# Altium footprint library Package_TO_SOT_THT.PcbLib: 236 footprints (part 9 of 15)
Each footprint in its own frame and in the unit in brackets; x right, y up, seen from the top. Pads: shape width x height; smd on the part's side, far side on the other; paste and mask are expansions set on the pad; w line width, h text height; cw(c..) or ccw(c..) is an arc to the next point about the centre after c.
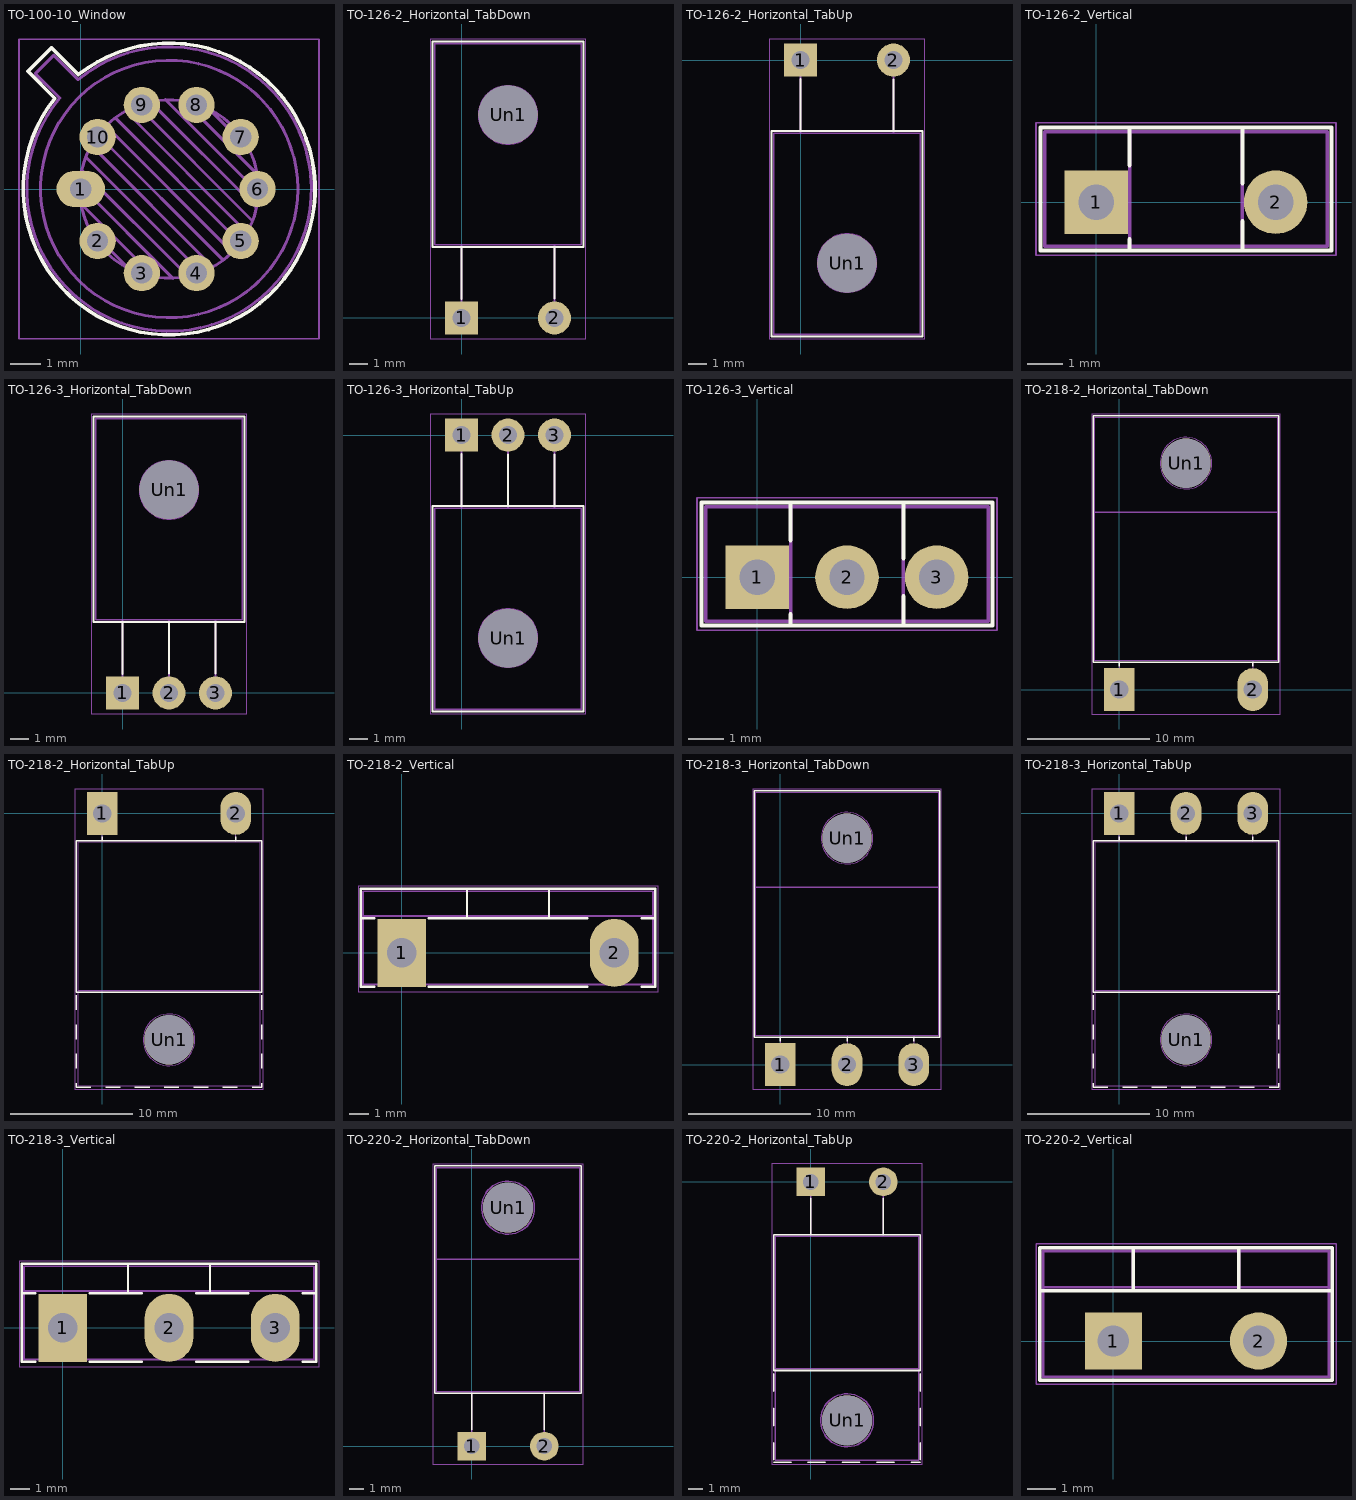
[diagram p8: the footprints below, top view; thin cyan lines are the x and y axes]

## TO-100-10_Window [mm]
pads (10):
  rrect100% 1.6x1.2 hole 0.7: 1(0,0)
  rrect100% 1.2x1.2 hole 0.7: 2(0.558,-1.716) 3(2.018,-2.777) 4(3.822,-2.777) 5(5.282,-1.716) 6(5.84,0) 7(5.282,1.716) 8(3.822,2.777) 9(2.018,2.777) 10(0.558,1.716)
F.SilkS:
  lines w0.12: -1.746,3.888 -0.968,4.666 -0.077,3.775 cw(c2.92,0) -0.855,2.997 -1.746,3.888
F.CrtYd:
  lines w0.05: -2.04,-4.95 7.87,-4.95 7.87,4.95 -2.04,4.95 -2.04,-4.95
F.Fab:
  circle w0.1: c2.92,0 r2.95
  circle w0.1: c2.92,0 r4.25
  lines w0.1: -0.028,0.12 3.04,-2.948 ; 0.009,-0.485 2.435,-2.911 ; 0.036,0.622 3.542,-2.884 ; 0.165,1.058 3.978,-2.755 ; 0.283,-1.324 1.596,-2.637 ; 0.346,1.443 4.363,-2.574 ; 0.57,1.784 4.704,-2.35 ; 0.834,2.086 5.006,-2.086 ; 1.136,2.35 5.27,-1.784 ; 1.477,2.574 5.494,-1.443 ; 1.862,2.755 5.675,-1.058 ; 2.298,2.884 5.804,-0.622 ; 2.8,2.948 5.868,-0.12 ; 3.405,2.911 5.831,0.485 ; 4.244,2.637 5.557,1.324 ; -1.5,3.812 -0.694,3.005 ccw(c2.92,0) -0.085,3.614 -0.892,4.42 -1.5,3.812
  text "'.Designator'" at -1.127,4.98 h1

## TO-126-2_Horizontal_TabDown [mm]
pads (3):
  rect 1.8x1.8 hole 1: 1(0,0)
  rrect100% 1.8x1.8 hole 1: 2(5.08,0)
  rrect100% 3.2x3.2 hole 3.2: Un1(2.54,11.1)
F.SilkS:
  lines w0.12: 0,1.05 0,3.88 ; 5.08,1.066 5.08,3.88 ; -1.58,3.88 -1.58,15.12 6.66,15.12 6.66,3.88 -1.58,3.88
F.CrtYd:
  lines w0.05: -1.71,-1.15 -1.71,15.25 6.79,15.25 6.79,-1.15 -1.71,-1.15
F.Fab:
  circle w0.1: c2.54,11.1 r1.6
  lines w0.1: 0,0 0,4 ; 5.08,0 5.08,4 ; -1.46,4 -1.46,15 6.54,15 6.54,4 -1.46,4
  text "'.Designator'" at -1.507,15.28 h1

## TO-126-2_Horizontal_TabUp [mm]
pads (3):
  rect 1.8x1.8 hole 1: 1(0,0)
  rrect100% 1.8x1.8 hole 1: 2(5.08,0)
  rrect100% 3.2x3.2 hole 3.2: Un1(2.54,-11.1)
F.SilkS:
  lines w0.12: 0,-3.88 0,-1.05 ; 5.08,-3.88 5.08,-1.066 ; -1.58,-15.12 -1.58,-3.88 6.66,-3.88 6.66,-15.12 -1.58,-15.12
F.CrtYd:
  lines w0.05: -1.71,-15.25 6.79,-15.25 6.79,1.15 -1.71,1.15 -1.71,-15.25
F.Fab:
  circle w0.1: c2.54,-11.1 r1.6
  lines w0.1: 0,-4 0,0 ; 5.08,-4 5.08,0 ; -1.46,-15 6.54,-15 6.54,-4 -1.46,-4 -1.46,-15
  text "'.Designator'" at -1.507,-16.96 h1

## TO-126-2_Vertical [mm]
pads (2):
  rect 1.8x1.8 hole 1: 1(0,0)
  rrect100% 1.8x1.8 hole 1: 2(5.08,0)
F.SilkS:
  lines w0.12: 0.94,-1.37 0.94,-1.05 ; 0.94,1.05 0.94,2.12 ; 4.141,-1.37 4.141,-0.54 ; 4.141,0.54 4.141,2.12 ; -1.58,-1.37 6.66,-1.37 6.66,2.12 -1.58,2.12 -1.58,-1.37
F.CrtYd:
  lines w0.05: -1.71,-1.5 6.79,-1.5 6.79,2.25 -1.71,2.25 -1.71,-1.5
F.Fab:
  lines w0.1: 0.94,-1.25 0.94,2 ; 4.14,-1.25 4.14,2 ; -1.46,-1.25 -1.46,2 6.54,2 6.54,-1.25 -1.46,-1.25
  text "'.Designator'" at -1.507,2.28 h1

## TO-126-3_Horizontal_TabDown [mm]
pads (4):
  rect 1.8x1.8 hole 1: 1(0,0)
  rrect100% 1.8x1.8 hole 1: 2(2.54,0) 3(5.08,0)
  rrect100% 3.2x3.2 hole 3.2: Un1(2.54,11.1)
F.SilkS:
  lines w0.12: 0,1.05 0,3.88 ; 2.54,1.066 2.54,3.88 ; 5.08,1.066 5.08,3.88 ; -1.58,3.88 6.66,3.88 6.66,15.12 -1.58,15.12 -1.58,3.88
F.CrtYd:
  lines w0.05: -1.71,-1.15 -1.71,15.25 6.79,15.25 6.79,-1.15 -1.71,-1.15
F.Fab:
  circle w0.1: c2.54,11.1 r1.6
  lines w0.1: 0,0 0,4 ; 2.54,0 2.54,4 ; 5.08,0 5.08,4 ; -1.46,4 6.54,4 6.54,15 -1.46,15 -1.46,4
  text "'.Designator'" at -1.507,15.28 h1

## TO-126-3_Horizontal_TabUp [mm]
pads (4):
  rect 1.8x1.8 hole 1: 1(0,0)
  rrect100% 1.8x1.8 hole 1: 2(2.54,0) 3(5.08,0)
  rrect100% 3.2x3.2 hole 3.2: Un1(2.54,-11.1)
F.SilkS:
  lines w0.12: 0,-3.88 0,-1.05 ; 2.54,-3.88 2.54,-1.066 ; 5.08,-3.88 5.08,-1.066 ; -1.58,-15.12 -1.58,-3.88 6.66,-3.88 6.66,-15.12 -1.58,-15.12
F.CrtYd:
  lines w0.05: -1.71,-15.25 6.79,-15.25 6.79,1.15 -1.71,1.15 -1.71,-15.25
F.Fab:
  circle w0.1: c2.54,-11.1 r1.6
  lines w0.1: 0,-4 0,0 ; 2.54,-4 2.54,0 ; 5.08,-4 5.08,0 ; -1.46,-15 6.54,-15 6.54,-4 -1.46,-4 -1.46,-15
  text "'.Designator'" at -1.507,-16.96 h1

## TO-126-3_Vertical [mm]
pads (3):
  rect 1.8x1.8 hole 1: 1(0,0)
  rrect100% 1.8x1.8 hole 1: 2(2.54,0) 3(5.08,0)
F.SilkS:
  lines w0.12: 0.94,-1.37 0.94,-1.05 ; 0.94,1.05 0.94,2.12 ; 4.141,-1.37 4.141,-0.54 ; 4.141,0.54 4.141,2.12 ; -1.58,-1.37 6.66,-1.37 6.66,2.12 -1.58,2.12 -1.58,-1.37
F.CrtYd:
  lines w0.05: -1.71,-1.5 -1.71,2.25 6.79,2.25 6.79,-1.5 -1.71,-1.5
F.Fab:
  lines w0.1: 0.94,-1.25 0.94,2 ; 4.14,-1.25 4.14,2 ; -1.46,-1.25 -1.46,2 6.54,2 6.54,-1.25 -1.46,-1.25
  text "'.Designator'" at -1.507,2.28 h1

## TO-218-2_Horizontal_TabDown [mm]
pads (3):
  rect 2.5x3.5 hole 1.5: 1(0,0)
  rrect100% 2.5x3.5 hole 1.5: 2(10.95,0)
  rrect100% 4.04x4.04 hole 4.04: Un1(5.475,18.55)
F.SilkS:
  lines w0.12: 0,1.9 0,2.23 ; 10.95,1.9 10.95,2.23 ; -2.115,2.23 13.065,2.23 13.065,22.45 -2.115,22.45 -2.115,2.23
F.CrtYd:
  lines w0.05: -2.25,-2 13.2,-2 13.2,22.58 -2.25,22.58 -2.25,-2
F.Fab:
  circle w0.1: c5.475,18.55 r2.115
  lines w0.1: 0,0 0,2.35 ; 10.95,0 10.95,2.35 ; -1.995,14.54 12.945,14.54 ; -1.995,14.54 -1.995,2.35 12.945,2.35 12.945,14.54 ; -1.995,14.54 12.945,14.54 ; -1.995,14.54 -1.995,22.33 12.945,22.33 12.945,14.54
  text "'.Designator'" at 1.428,22.61 h1

## TO-218-2_Horizontal_TabUp [mm]
pads (3):
  rect 2.5x3.5 hole 1.5: 1(0,0)
  rrect100% 2.5x3.5 hole 1.5: 2(10.95,0)
  rrect100% 4.04x4.04 hole 4.04: Un1(5.475,-18.55)
F.SilkS:
  lines w0.12: -2.115,-22.1 -2.115,-22.45 -0.916,-22.45 ; -2.115,-20.9 -2.115,-19.7 ; -2.115,-18.5 -2.115,-17.3 ; -2.115,-16.101 -2.115,-14.9 ; 0,-2.23 0,-1.9 ; 0.285,-22.45 1.485,-22.45 ; 2.685,-22.45 3.885,-22.45 ; 5.085,-22.45 6.285,-22.45 ; 7.485,-22.45 8.685,-22.45 ; 9.885,-22.45 11.085,-22.45 ; 10.95,-2.23 10.95,-1.9 ; 12.285,-22.45 13.065,-22.45 13.065,-22.1 ; 13.065,-20.9 13.065,-19.7 ; 13.065,-18.5 13.065,-17.3 ; 13.065,-16.101 13.065,-14.9 ; -2.115,-14.66 -2.115,-2.23 13.065,-2.23 13.065,-14.66 -2.115,-14.66
F.CrtYd:
  lines w0.05: -2.25,-22.58 -2.25,2 13.2,2 13.2,-22.58 -2.25,-22.58
F.Fab:
  circle w0.1: c5.475,-18.55 r2.115
  lines w0.1: 0,-2.35 0,0 ; 10.95,-2.35 10.95,0 ; -1.995,-14.54 12.945,-14.54 ; -1.995,-14.54 -1.995,-2.35 12.945,-2.35 12.945,-14.54 ; -1.995,-14.54 -1.995,-22.33 12.945,-22.33 12.945,-14.54 ; -1.995,-14.54 12.945,-14.54
  text "'.Designator'" at 1.428,-24.29 h1

## TO-218-2_Vertical [mm]
pads (2):
  rect 2.5x3.5 hole 1.5: 1(0,0)
  rrect100% 2.5x3.5 hole 1.5: 2(10.95,0)
F.SilkS:
  lines w0.12: -2.115,1.78 -1.4,1.78 ; -1.4,-1.75 -2.115,-1.75 -2.115,3.29 13.065,3.29 13.065,-1.75 12.35,-1.75 ; 1.4,-1.75 9.55,-1.75 ; 1.4,1.78 9.55,1.78 ; 3.36,1.78 3.36,3.29 ; 7.59,1.78 7.59,3.29 ; 12.35,1.78 13.065,1.78
F.CrtYd:
  lines w0.05: -2.25,-2 -2.25,3.42 13.2,3.42 13.2,-2 -2.25,-2
F.Fab:
  lines w0.1: -1.995,1.9 12.945,1.9 ; 3.36,1.9 3.36,3.17 ; 7.59,1.9 7.59,3.17 ; -1.995,-1.63 -1.995,3.17 12.945,3.17 12.945,-1.63 -1.995,-1.63
  text "'.Designator'" at 1.428,3.45 h1

## TO-218-3_Horizontal_TabDown [mm]
pads (4):
  rect 2.5x3.5 hole 1.5: 1(0,0)
  rrect100% 2.5x3.5 hole 1.5: 2(5.475,0) 3(10.95,0)
  rrect100% 4.04x4.04 hole 4.04: Un1(5.475,18.55)
F.SilkS:
  lines w0.12: 0,1.9 0,2.23 ; 5.475,1.9 5.475,2.23 ; 10.95,1.9 10.95,2.23 ; -2.115,2.23 13.065,2.23 13.065,22.45 -2.115,22.45 -2.115,2.23
F.CrtYd:
  lines w0.05: -2.25,-2 13.2,-2 13.2,22.58 -2.25,22.58 -2.25,-2
F.Fab:
  circle w0.1: c5.475,18.55 r2.115
  lines w0.1: 0,0 0,2.35 ; 5.475,0 5.475,2.35 ; 10.95,0 10.95,2.35 ; -1.995,14.54 -1.995,2.35 12.945,2.35 12.945,14.54 ; -1.995,14.54 -1.995,22.33 12.945,22.33 12.945,14.54 ; -1.995,14.54 12.945,14.54 ; -1.995,14.54 12.945,14.54
  text "'.Designator'" at 1.428,22.61 h1

## TO-218-3_Horizontal_TabUp [mm]
pads (4):
  rect 2.5x3.5 hole 1.5: 1(0,0)
  rrect100% 2.5x3.5 hole 1.5: 2(5.475,0) 3(10.95,0)
  rrect100% 4.04x4.04 hole 4.04: Un1(5.475,-18.55)
F.SilkS:
  lines w0.12: -2.115,-22.1 -2.115,-22.45 -0.916,-22.45 ; -2.115,-20.9 -2.115,-19.7 ; -2.115,-18.5 -2.115,-17.3 ; -2.115,-16.101 -2.115,-14.9 ; 0,-2.23 0,-1.9 ; 0.285,-22.45 1.485,-22.45 ; 2.685,-22.45 3.885,-22.45 ; 5.085,-22.45 6.285,-22.45 ; 5.475,-2.23 5.475,-1.9 ; 7.485,-22.45 8.685,-22.45 ; 9.885,-22.45 11.085,-22.45 ; 10.95,-2.23 10.95,-1.9 ; 12.285,-22.45 13.065,-22.45 13.065,-22.1 ; 13.065,-20.9 13.065,-19.7 ; 13.065,-18.5 13.065,-17.3 ; 13.065,-16.101 13.065,-14.9 ; -2.115,-14.66 13.065,-14.66 13.065,-2.23 -2.115,-2.23 -2.115,-14.66
F.CrtYd:
  lines w0.05: -2.25,-22.58 13.2,-22.58 13.2,2 -2.25,2 -2.25,-22.58
F.Fab:
  circle w0.1: c5.475,-18.55 r2.115
  lines w0.1: 0,-2.35 0,0 ; 5.475,-2.35 5.475,0 ; 10.95,-2.35 10.95,0 ; -1.995,-14.54 -1.995,-2.35 12.945,-2.35 12.945,-14.54 ; -1.995,-14.54 12.945,-14.54 ; -1.995,-14.54 -1.995,-22.33 12.945,-22.33 12.945,-14.54 ; -1.995,-14.54 12.945,-14.54
  text "'.Designator'" at 1.428,-24.29 h1

## TO-218-3_Vertical [mm]
pads (3):
  rect 2.5x3.5 hole 1.5: 1(0,0)
  rrect100% 2.5x3.5 hole 1.5: 2(5.475,0) 3(10.95,0)
F.SilkS:
  lines w0.12: -2.115,1.78 -1.4,1.78 ; -1.4,-1.75 -2.115,-1.75 -2.115,3.29 13.065,3.29 13.065,-1.75 12.35,-1.75 ; 1.4,-1.75 4.075,-1.75 ; 1.4,1.78 4.075,1.78 ; 3.36,1.78 3.36,3.29 ; 6.875,-1.75 9.55,-1.75 ; 6.875,1.78 9.55,1.78 ; 7.59,1.78 7.59,3.29 ; 12.35,1.78 13.065,1.78
F.CrtYd:
  lines w0.05: -2.25,-2 -2.25,3.42 13.2,3.42 13.2,-2 -2.25,-2
F.Fab:
  lines w0.1: -1.995,1.9 12.945,1.9 ; 3.36,1.9 3.36,3.17 ; 7.59,1.9 7.59,3.17 ; -1.995,-1.63 12.945,-1.63 12.945,3.17 -1.995,3.17 -1.995,-1.63
  text "'.Designator'" at 1.428,3.45 h1

## TO-220-2_Horizontal_TabDown [mm]
pads (3):
  rect 2x2 hole 1.1: 1(0,0)
  rrect100% 2x2 hole 1.1: 2(5.08,0)
  rrect100% 3.5x3.5 hole 3.5: Un1(2.54,16.66)
F.SilkS:
  lines w0.12: 0,1.15 0,3.69 ; 5.08,1.165 5.08,3.69 ; -2.58,3.69 7.66,3.69 7.66,19.58 -2.58,19.58 -2.58,3.69
F.CrtYd:
  lines w0.05: -2.71,-1.25 7.79,-1.25 7.79,19.71 -2.71,19.71 -2.71,-1.25
F.Fab:
  circle w0.1: c2.54,16.66 r1.85
  lines w0.1: 0,0 0,3.81 ; 5.08,0 5.08,3.81 ; -2.46,13.06 -2.46,19.46 7.54,19.46 7.54,13.06 ; -2.46,13.06 7.54,13.06 ; -2.46,13.06 -2.46,3.81 7.54,3.81 7.54,13.06 ; -2.46,13.06 7.54,13.06
  text "'.Designator'" at -1.507,19.74 h1

## TO-220-2_Horizontal_TabUp [mm]
pads (3):
  rect 2x2 hole 1.1: 1(0,0)
  rrect100% 2x2 hole 1.1: 2(5.08,0)
  rrect100% 3.5x3.5 hole 3.5: Un1(2.54,-16.66)
F.SilkS:
  lines w0.12: -2.58,-19.58 -1.38,-19.58 ; -2.58,-19.42 -2.58,-18.22 ; -2.58,-17.02 -2.58,-15.82 ; -2.58,-14.62 -2.58,-13.42 ; -0.181,-19.58 1.02,-19.58 ; 0,-3.69 0,-1.15 ; 2.22,-19.58 3.42,-19.58 ; 4.62,-19.58 5.82,-19.58 ; 5.08,-3.69 5.08,-1.165 ; 7.02,-19.58 7.66,-19.58 ; 7.66,-19.42 7.66,-18.22 ; 7.66,-17.02 7.66,-15.82 ; 7.66,-14.62 7.66,-13.42 ; -2.58,-13.18 -2.58,-3.69 7.66,-3.69 7.66,-13.18 -2.58,-13.18
F.CrtYd:
  lines w0.05: -2.71,-19.71 -2.71,1.25 7.79,1.25 7.79,-19.71 -2.71,-19.71
F.Fab:
  circle w0.1: c2.54,-16.66 r1.85
  lines w0.1: 0,-3.81 0,0 ; 5.08,-3.81 5.08,0 ; -2.46,-13.06 7.54,-13.06 ; -2.46,-13.06 -2.46,-19.46 7.54,-19.46 7.54,-13.06 ; -2.46,-13.06 7.54,-13.06 ; -2.46,-13.06 -2.46,-3.81 7.54,-3.81 7.54,-13.06
  text "'.Designator'" at -1.507,-21.42 h1

## TO-220-2_Vertical [mm]
pads (2):
  rect 2x2 hole 1.1: 1(0,0)
  rrect100% 2x2 hole 1.1: 2(5.08,0)
F.SilkS:
  lines w0.12: -2.58,1.76 7.66,1.76 ; 0.69,1.76 0.69,3.27 ; 4.391,1.76 4.391,3.27 ; -2.58,-1.371 7.66,-1.371 7.66,3.27 -2.58,3.27 -2.58,-1.371
F.CrtYd:
  lines w0.05: -2.71,-1.51 -2.71,3.4 7.79,3.4 7.79,-1.51 -2.71,-1.51
F.Fab:
  lines w0.1: -2.46,1.88 7.54,1.88 ; 0.69,1.88 0.69,3.15 ; 4.39,1.88 4.39,3.15 ; -2.46,-1.25 -2.46,3.15 7.54,3.15 7.54,-1.25 -2.46,-1.25
  text "'.Designator'" at -1.507,3.43 h1